# EAGLE library part NET2272 (library plxtech)
NET2272 USB 2.0 Peripheral Controller Source: http://www.plxtech.com/dts/download.asp?f=NET2000/2272/Net2272.spec.re040615.pdf FBGA-Type: http://www1.plxtech.com/TEMP/77131/NET2272r1A_data_book_v1.92_31Oct05.pdf
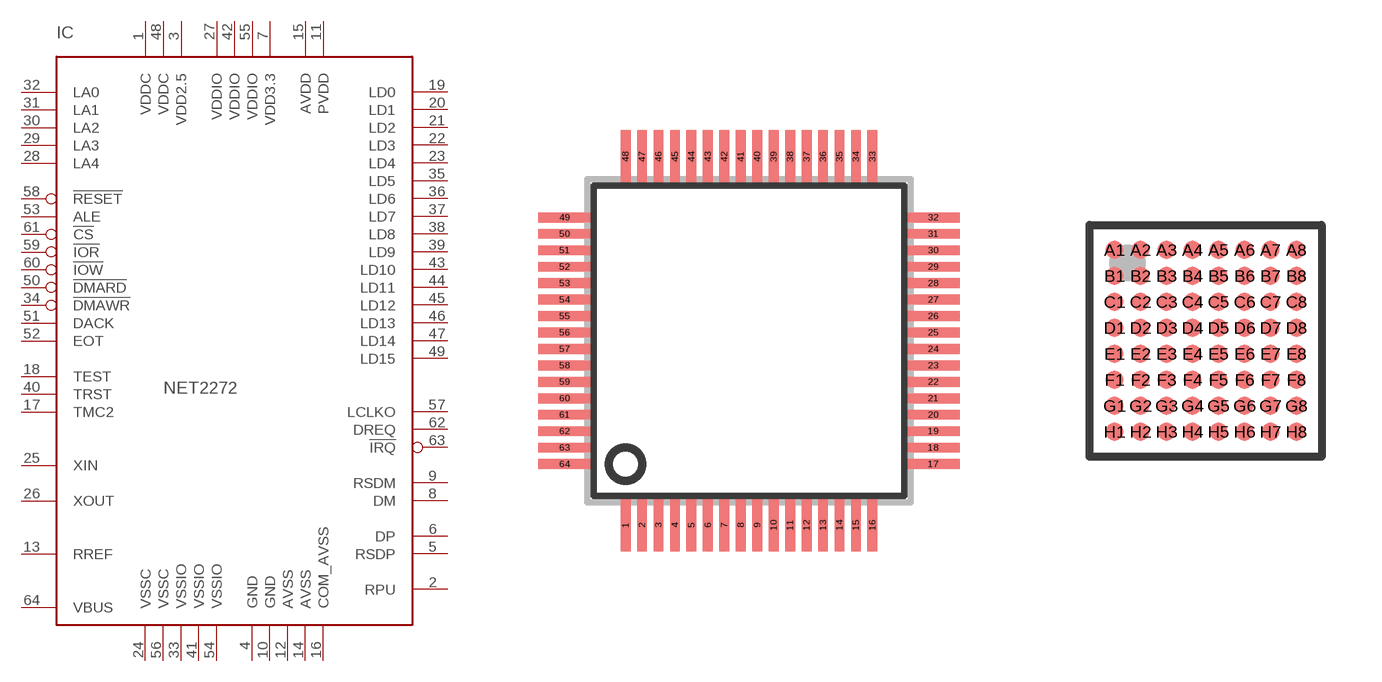
[diagram p1: symbol with the pads of TQFP64; footprints TQFP64, FBGA64]

Designator prefix IC

## NET2272REV1A-LF (MPN: NET2272REV1A-LF; OC_FARNELL: 1623121; OC_NEWARK: 08P1483)  [TQFP64]
1  VDDC  pwr
2  RPU  out
3  VDD2.5  pwr
4  GND  pwr
5  RSDP  out
6  DP
7  VDD3.3  pwr
8  DM
9  RSDM  out
10  GND  pwr
11  PVDD  pwr
12  AVSS  pwr
13  RREF  in
14  AVSS  pwr
15  AVDD  pwr
16  COM_AVSS  pwr
17  TMC2  in
18  TEST  in
19  LD0
20  LD1
21  LD2
22  LD3
23  LD4
24  VSSC  pwr
25  XIN  in
26  XOUT  out
27  VDDIO  pwr
28  LA4  in
29  LA3  in
30  LA2  in
31  LA1  in
32  LA0  in
33  VSSIO  pwr
34  !DMAWR  in
35  LD5
36  LD6
37  LD7
38  LD8
39  LD9
40  TRST  in
41  VSSIO  pwr
42  VDDIO  pwr
43  LD10
44  LD11
45  LD12
46  LD13
47  LD14
48  VDDC  pwr
49  LD15
50  !DMARD  in
51  DACK  in
52  EOT  in
53  ALE  in
54  VSSIO  pwr
55  VDDIO  pwr
56  VSSC  pwr
57  LCLKO  out
58  !RESET  in
59  !IOR  in
60  !IOW  in
61  !CS  in
62  DREQ  out
63  !IRQ  out
64  VBUS  in

## NET2272REV1A-BCF (OC_FARNELL: unknown; OC_NEWARK: unknown)  [FBGA64]
A1  LD0
A2  COM_AVSS  pwr
A3  RSDM  out
A4  GND  pwr
A5  RSDP  out
A6  GND  pwr
A7  VDDC  pwr
A8  DREQ  out
B1  LD1
B2  AVSS  pwr
B3  DM
B4  VDD3.3  pwr
B5  DP
B6  AVSS  pwr
B7  !IOW  in
B8  VBUS  in
C1  LD3
C2  LD2
C3  AVDD  pwr
C4  PVDD  pwr
C5  VDD2.5  pwr
C6  !RESET  in
C7  !CS  in
C8  !IOR  in
D1  XOUT  out
D2  VSSC  pwr
D3  LD4
D4  RREF  in
D5  RPU  out
D6  !IRQ  out
D7  VDDIO  pwr
D8  VSSC  pwr
E1  XIN  in
E2  LA3  in
E3  VDDIO  pwr
E4  TEST  in
E5  TMC2  in
E6  LCLKO  out
E7  EOT  in
E8  ALE  in
F1  LA4  in
F2  LA2  in
F3  LD7
F4  LD9
F5  VDDIO  pwr
F6  LD12
F7  DACK  in
F8  VSSIO  pwr
G1  LA0  in
G2  LA1  in
G3  LD6
G4  LD8
G5  TRST  in
G6  LD10
G7  !DMARD  in
G8  LD15
H1  VSSIO  pwr
H2  LD5
H3  !DMAWR  in
H4  VSSIO  pwr
H5  LD11
H6  LD13
H7  LD14
H8  VDDC  pwr

## Footprint TQFP64 (pad centres in mm)
64-PIN PLASTIC TQFP (10x10) shrink quad flat pack, square Source: SQFP-S-10X10-64 ipc-smd.lbr
smd 0.3 x 1.6: 1 -3.75,-5.6; 2 -3.25,-5.6; 3 -2.75,-5.6; 4 -2.25,-5.6; 5 -1.75,-5.6; 6 -1.25,-5.6; 7 -0.75,-5.6; 8 -0.25,-5.6; 9 0.25,-5.6; 10 0.75,-5.6; 11 1.25,-5.6; 12 1.75,-5.6; 13 2.25,-5.6; 14 2.75,-5.6; 15 3.25,-5.6; 16 3.75,-5.6; 33 3.75,5.6; 34 3.25,5.6; 35 2.75,5.6; 36 2.25,5.6; 37 1.75,5.6; 38 1.25,5.6; 39 0.75,5.6; 40 0.25,5.6; 41 -0.25,5.6; 42 -0.75,5.6; 43 -1.25,5.6; 44 -1.75,5.6; 45 -2.25,5.6; 46 -2.75,5.6; 47 -3.25,5.6; 48 -3.75,5.6
smd 1.6 x 0.3: 17 5.6,-3.75; 18 5.6,-3.25; 19 5.6,-2.75; 20 5.6,-2.25; 21 5.6,-1.75; 22 5.6,-1.25; 23 5.6,-0.75; 24 5.6,-0.25; 25 5.6,0.25; 26 5.6,0.75; 27 5.6,1.25; 28 5.6,1.75; 29 5.6,2.25; 30 5.6,2.75; 31 5.6,3.25; 32 5.6,3.75; 49 -5.6,3.75; 50 -5.6,3.25; 51 -5.6,2.75; 52 -5.6,2.25; 53 -5.6,1.75; 54 -5.6,1.25; 55 -5.6,0.75; 56 -5.6,0.25; 57 -5.6,-0.25; 58 -5.6,-0.75; 59 -5.6,-1.25; 60 -5.6,-1.75; 61 -5.6,-2.25; 62 -5.6,-2.75; 63 -5.6,-3.25; 64 -5.6,-3.75

## Footprint FBGA64 (pad centres in mm)
64-Ball Plastic FBGA 6 x 6 mm Source: http://www1.plxtech.com/TEMP/77131/NET2272r1A_data_book_v1.92_31Oct05.pdf
smd 0.45 x 0.45: A1 -2.275,2.275; A2 -1.625,2.275; A3 -0.975,2.275; A4 -0.325,2.275; A5 0.325,2.275; A6 0.975,2.275; A7 1.625,2.275; A8 2.275,2.275; B1 -2.275,1.625; B2 -1.625,1.625; B3 -0.975,1.625; B4 -0.325,1.625; B5 0.325,1.625; B6 0.975,1.625; B7 1.625,1.625; B8 2.275,1.625; C1 -2.275,0.975; C2 -1.625,0.975; C3 -0.975,0.975; C4 -0.325,0.975; C5 0.325,0.975; C6 0.975,0.975; C7 1.625,0.975; C8 2.275,0.975; D1 -2.275,0.325; D2 -1.625,0.325; D3 -0.975,0.325; D4 -0.325,0.325; D5 0.325,0.325; D6 0.975,0.325; D7 1.625,0.325; D8 2.275,0.325; E1 -2.275,-0.325; E2 -1.625,-0.325; E3 -0.975,-0.325; E4 -0.325,-0.325; E5 0.325,-0.325; E6 0.975,-0.325; E7 1.625,-0.325; E8 2.275,-0.325; F1 -2.275,-0.975; F2 -1.625,-0.975; F3 -0.975,-0.975; F4 -0.325,-0.975; F5 0.325,-0.975; F6 0.975,-0.975; F7 1.625,-0.975; F8 2.275,-0.975; G1 -2.275,-1.625; G2 -1.625,-1.625; G3 -0.975,-1.625; G4 -0.325,-1.625; G5 0.325,-1.625; G6 0.975,-1.625; G7 1.625,-1.625; G8 2.275,-1.625; H1 -2.275,-2.275; H2 -1.625,-2.275; H3 -0.975,-2.275; H4 -0.325,-2.275; H5 0.325,-2.275; H6 0.975,-2.275; H7 1.625,-2.275; H8 2.275,-2.275